# EAGLE library part ATSAMD21G18A-AU (library Microcontroller)
IC MCU 32BIT 256KB FLASH 48TQFP Manufacturer's datasheet <http://ww1.microchip.com/downloads/en/DeviceDoc/SAMD21-Family-DataSheet-DS40001882D.pdf>
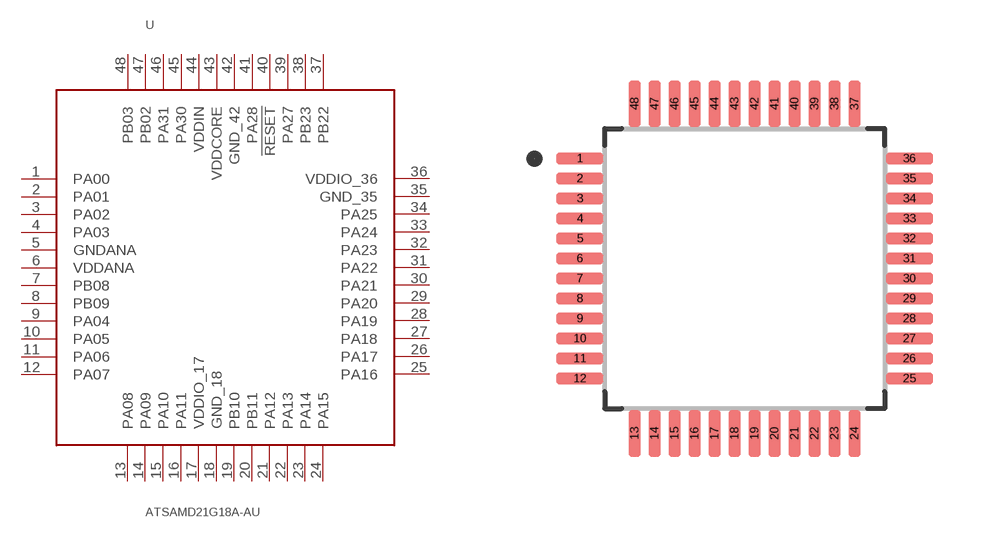
[diagram p9: symbol with the pads of TQFP-48; footprint TQFP-48]

Designator prefix U

## ATSAMD21G18A-AU (CREATED_BY: PCBLayout.com; DIGI_KEY_PART_NUMBER: ATSAMD21G18A-AU-ND; MANUFACTURER: Microchip Technology; MPN: ATSAMD21G18A-AU; PACKAGE: 48-TQFP)  [TQFP-48]
1  PA00
2  PA01
3  PA02
4  PA03
5  GNDANA
6  VDDANA
7  PB08
8  PB09
9  PA04
10  PA05
11  PA06
12  PA07
13  PA08
14  PA09
15  PA10
16  PA11
17  VDDIO_17
18  GND_18
19  PB10
20  PB11
21  PA12
22  PA13
23  PA14
24  PA15
25  PA16
26  PA17
27  PA18
28  PA19
29  PA20
30  PA21
31  PA22
32  PA23
33  PA24
34  PA25
35  GND_35
36  VDDIO_36
37  PB22
38  PB23
39  PA27
40  !RESET
41  PA28
42  GND_42
43  VDDCORE
44  VDDIN
45  PA30
46  PA31
47  PB02
48  PB03

## Footprint TQFP-48 (pad centres in mm)
Quad Flat Pack (QFP), 0.50 mm pitch; square, 12 pin X 12 pin, 7.00 mm L X 7.00 mm W X 1.20 mm H body PCB Libraries Packages
smd 1.17 x 0.3: 1 -4.12,2.75; 2 -4.12,2.25; 3 -4.12,1.75; 4 -4.12,1.25; 5 -4.12,0.75; 6 -4.12,0.25; 7 -4.12,-0.25; 8 -4.12,-0.75; 9 -4.12,-1.25; 10 -4.12,-1.75; 11 -4.12,-2.25; 12 -4.12,-2.75; 25 4.12,-2.75; 26 4.12,-2.25; 27 4.12,-1.75; 28 4.12,-1.25; 29 4.12,-0.75; 30 4.12,-0.25; 31 4.12,0.25; 32 4.12,0.75; 33 4.12,1.25; 34 4.12,1.75; 35 4.12,2.25; 36 4.12,2.75
smd 0.3 x 1.17: 13 -2.75,-4.12; 14 -2.25,-4.12; 15 -1.75,-4.12; 16 -1.25,-4.12; 17 -0.75,-4.12; 18 -0.25,-4.12; 19 0.25,-4.12; 20 0.75,-4.12; 21 1.25,-4.12; 22 1.75,-4.12; 23 2.25,-4.12; 24 2.75,-4.12; 37 2.75,4.12; 38 2.25,4.12; 39 1.75,4.12; 40 1.25,4.12; 41 0.75,4.12; 42 0.25,4.12; 43 -0.25,4.12; 44 -0.75,4.12; 45 -1.25,4.12; 46 -1.75,4.12; 47 -2.25,4.12; 48 -2.75,4.12